# Altium footprint library RF.PcbLib: 1 footprints
Each footprint in its own frame and in the unit in brackets; x right, y up, seen from the top. Pads: shape width x height; smd on the part's side, far side on the other; paste and mask are expansions set on the pad; w line width, h text height; cw(c..) or ccw(c..) is an arc to the next point about the centre after c.
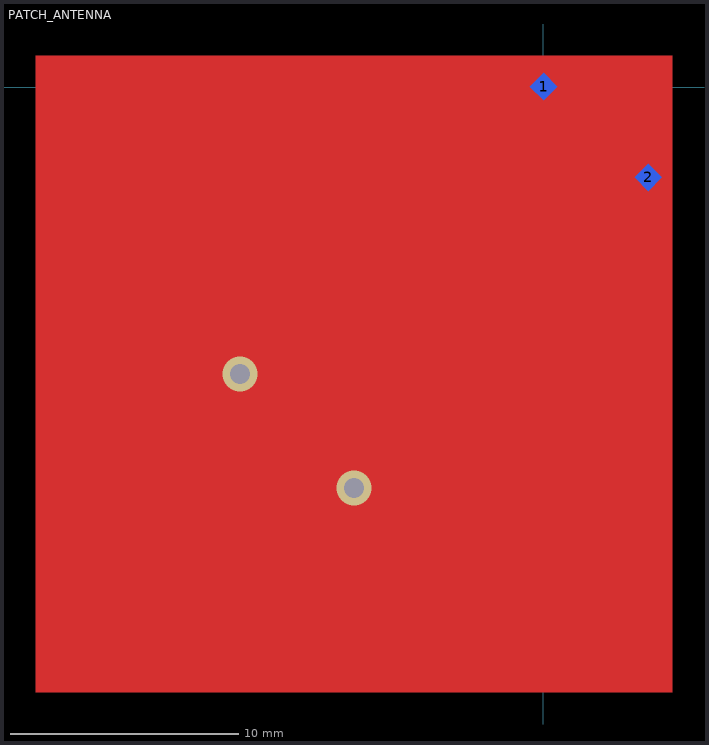
[diagram p0: the footprint, top view; thin cyan lines are the x and y axes]

## PATCH_ANTENNA [mm]
pads (2):
  rect 0.85x0.85 smd far side rot 45 paste-1 mask+0.051: 1(0.011,0.021) 2(4.6,-3.96)
via -13.3,-12.575 diameter 1.524 hole 0.889
via -8.3,-17.575 diameter 1.524 hole 0.889
Top Layer:
  region: 5.65,1.375 5.65,-26.525 -22.25,-26.525 -22.25,1.375
Bottom Layer:
  region: -1.099,0.538 0.018,0.622 -0.583,0.021
  region: 0.018,0.622 -1.099,0.538 -12.413,-10.776 -12.497,-11.893 -12.752,-12.148 -12.752,-13.075 -12.477,-13.075 -11.896,-12.494 -11.26,-13.131 -9.917,-13.131 -5.391,-8.605 -4.33,-9.666 -8.856,-14.191 -8.856,-15.535 -8.219,-16.171 -8.8,-16.752 -8.8,-17.165 -8.011,-17.165 -7.618,-16.772 -6.501,-16.688 4.813,-5.374 4.897,-4.257 3.66,-3.019 2.316,-3.019 -2.209,-7.545 -3.27,-6.484 1.256,-1.959 1.256,-0.615 0.584,0.057 -0.017,-0.544 0.725,-1.287 -3.8,-5.812 -3.8,-7.156 -2.881,-8.075 -1.537,-8.075 2.988,-3.55 3.695,-4.257 -7.618,-15.57 -8.326,-14.863 -3.8,-10.338 -3.8,-8.994 -4.719,-8.075 -6.169,-7.969 -10.694,-12.494 -11.295,-11.893 0.018,-0.58 -0.59,0.028
Mechanical 15:
  lines w0.05: -8.55,-12.575 -8.05,-12.575 ; -8.3,-12.825 -8.3,-12.325